# Altium schematic symbol library QUTMS-ElectricalSystem.SchLib: 44 symbols
Pins are listed as number, name and electrical type; pins without a type are passive.

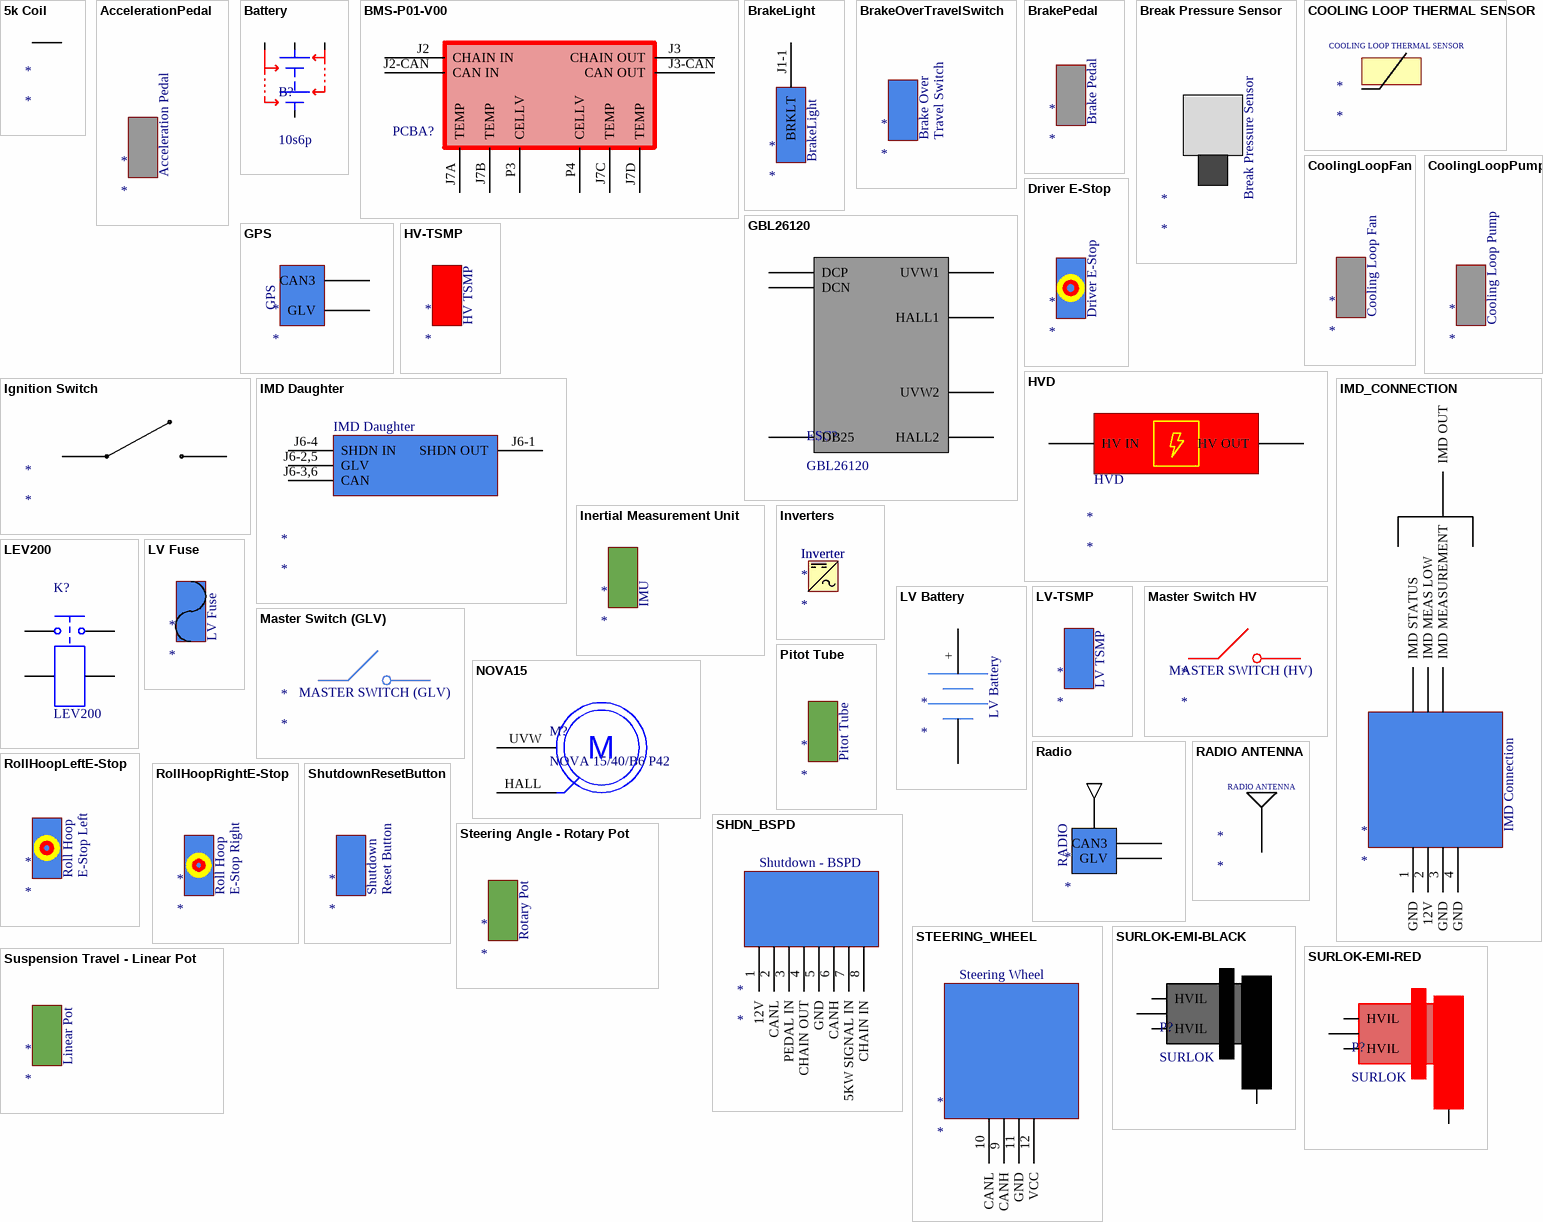
[diagram p0: symbols 5k Coil to Suspension Travel - Linear Pot]

## 5k Coil
designator *

## AccelerationPedal
designator *
text: Acceleration Pedal

## Battery
designator B?, comment 10s6p
Battery module, 10s6p
pins: 1 +, 1 +, 1 +, 2 -

## BMS-P01-V00
designator PCBA?  (value not drawn)
pins: J2 CHAIN IN, J2-CAN CAN IN, J3 CHAIN OUT, J3-CAN CAN OUT, J7A TEMP, J7B TEMP, J7C TEMP, J7D TEMP, P3 CELLV, P4 CELLV

## BrakeLight
designator *
pins: J1-1 BRKLT

## BrakeOverTravelSwitch
designator *
text: Brake Over; Travel Switch

## BrakePedal
designator *
text: Brake Pedal

## Break Pressure Sensor
designator *

## COOLING LOOP THERMAL SENSOR
designator *

## CoolingLoopFan
designator *
text: Cooling Loop Fan

## CoolingLoopPump
designator *
text: Cooling Loop Pump

## Driver E-Stop
designator *

## GBL26120
designator ESC?
pins: DB25, DCP, DCP DCN, HALL1, HALL2, UVW1, UVW2

## GPS
designator *
pins: ?1 CAN3, ?2 GLV

## HV-TSMP
designator *
text: HV TSMP

## HVD
designator *
pins: ?1 HV IN, ?2 HV OUT

## Ignition Switch
designator *
pins: ?1, ?2

## IMD Daughter
designator *
pins: J6-1 SHDN OUT, J6-2,5 GLV, J6-3,6 CAN, J6-4 SHDN IN

## IMD_CONNECTION
designator *
pins: 1 GND, 2 12V, 3 GND, 4 GND, ?1 IMD MEAS LOW, ?2 IMD STATUS, ?3 IMD MEASUREMENT, ?4 IMD OUT
text: IMD Connection

## Inertial Measurement Unit
designator *
text: IMU

## Inverters
designator *
text: Inverter

## LEV200
designator K?
pins: 1, 2, 4, 5

## LV Battery
designator *
pins: +, ?1

## LV Fuse
designator *

## LV-TSMP
designator *
text: LV TSMP

## Master Switch (GLV)
designator *
text: MASTER SWITCH (GLV)

## Master Switch HV
designator *
text: MASTER SWITCH (HV)

## NOVA15
designator M?, comment NOVA 15/40/B6 P42
pins: HALL, UVW U/V/W
text: M

## Pitot Tube
designator *

## Radio
designator *
pins: ?1 CAN3, ?2 GLV
text: RADIO

## RADIO ANTENNA
designator *

## RollHoopLeftE-Stop
designator *
text: Roll Hoop; E-Stop Left

## RollHoopRightE-Stop
designator *
text: Roll Hoop; E-Stop Right

## SHDN_BSPD
designator *
pins: 1 12V, 2 CANL, 3 PEDAL IN, 4 CHAIN OUT, 5 GND, 6 CANH, 7 5KW SIGNAL IN, 8 CHAIN IN
text: Shutdown - BSPD

## ShutdownResetButton
designator *
text: Shutdown; Reset Button

## Steering Angle - Rotary Pot
designator *
text: Rotary Pot

## STEERING_WHEEL
designator *
pins: 9 CANH, 10 CANL, 11 GND, 12 VCC
text: Steering Wheel

## SURLOK-EMI-BLACK
designator P?, comment SURLOK
pins: 1, 2, HVIL-1 HVIL, HVIL-2 HVIL

## SURLOK-EMI-RED
designator P?, comment SURLOK
pins: 1, 2, HVIL-1 HVIL, HVIL-2 HVIL

## Suspension Travel - Linear Pot
designator *
text: Linear Pot

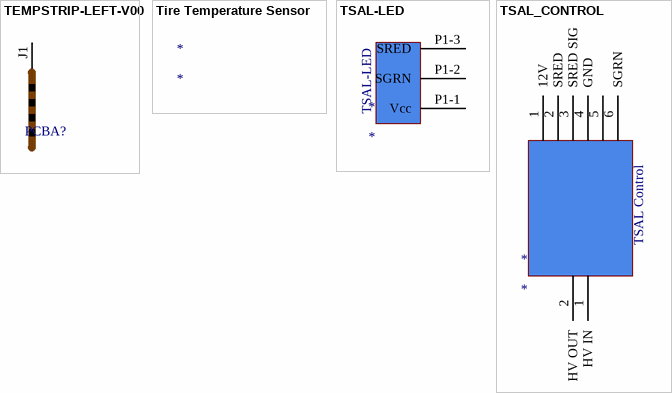
[diagram p1: symbols TEMPSTRIP-LEFT-V00 to TSAL_CONTROL]

## TEMPSTRIP-LEFT-V00
designator PCBA?  (value not drawn)
pins: J1 TEMP

## Tire Temperature Sensor
designator *

## TSAL-LED
designator *
pins: P1-1 Vcc, P1-2 SGRN, P1-3 SRED

## TSAL_CONTROL
designator *
pins: 1 12V, 1 HV IN, 2 SRED, 2 HV OUT, 3 SRED SIG, 4 GND, 5, 6 SGRN
text: TSAL Control